# Altium schematic symbol library QUAN-AD-Library.SchLib: 166 symbols (part 2 of 2)
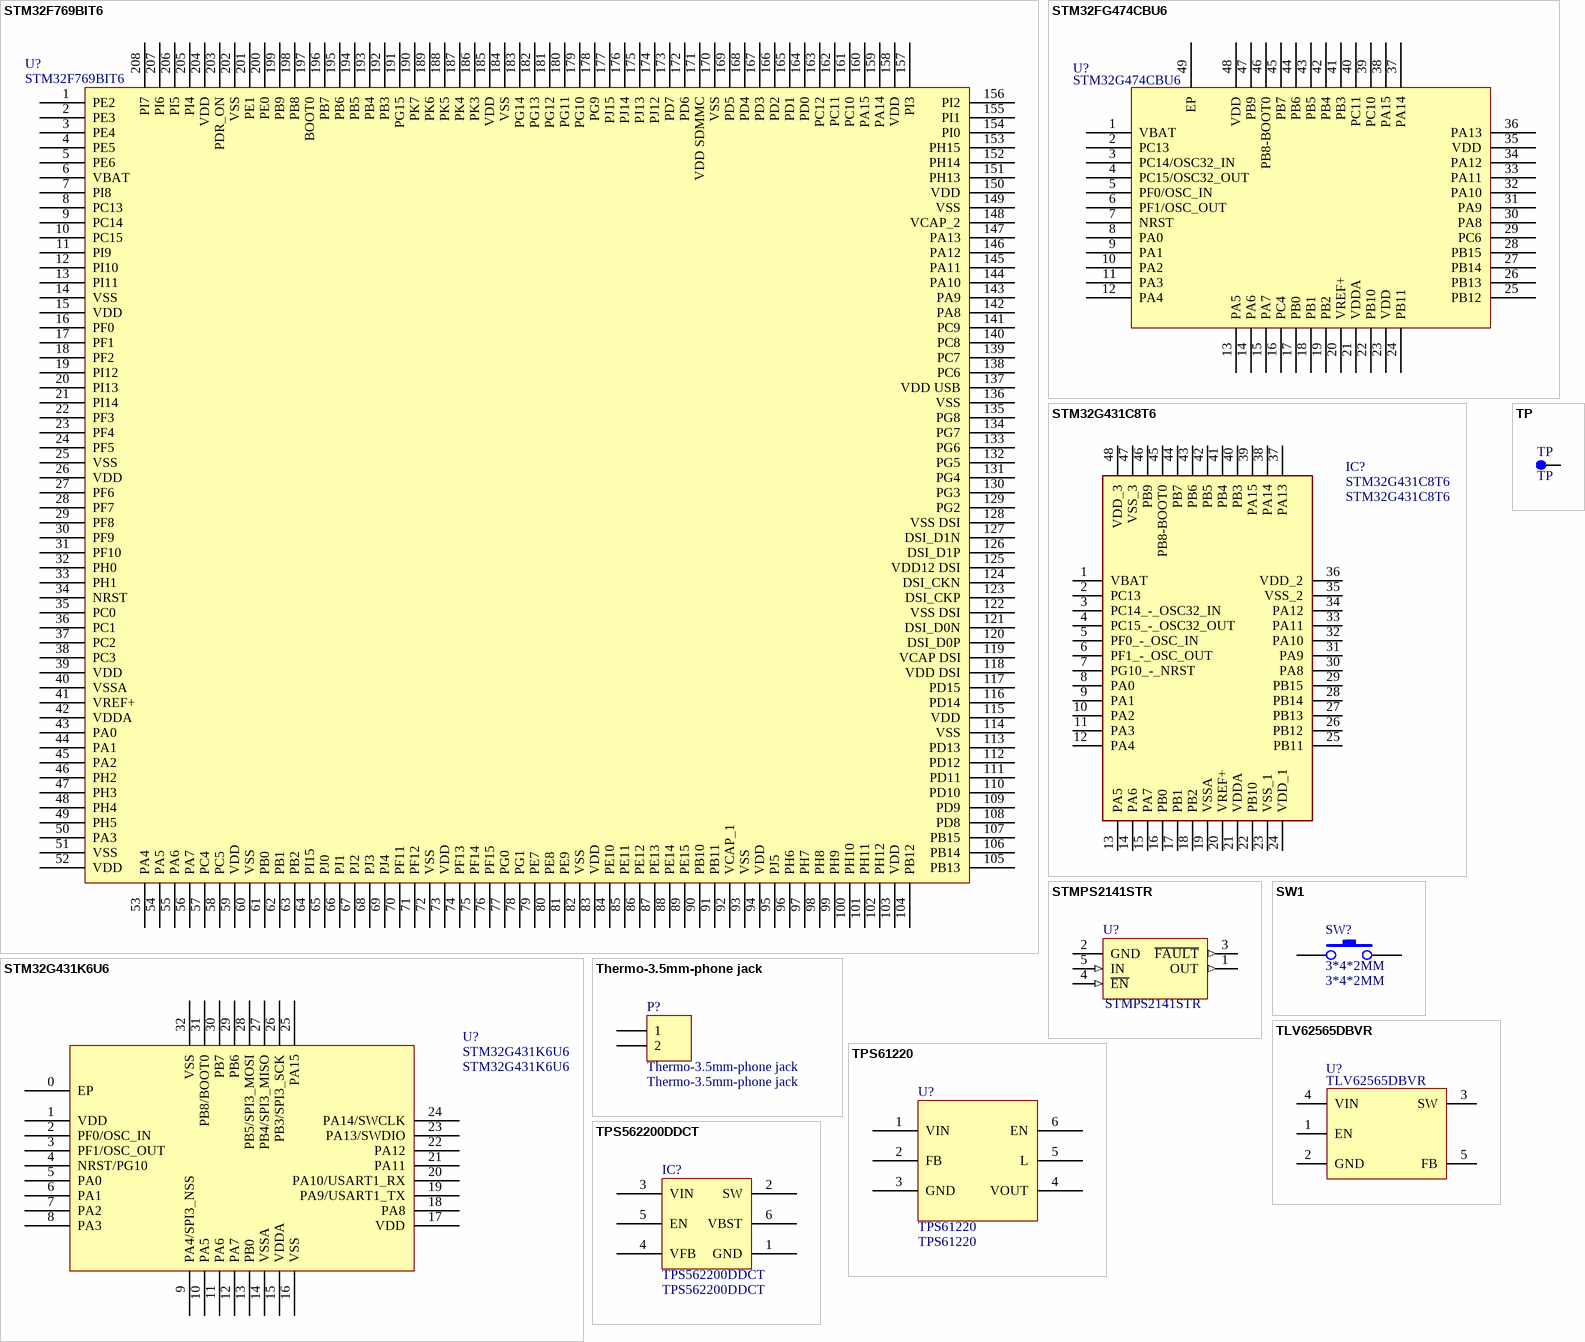
[diagram p8: symbols STM32F769BIT6 to TPS562200DDCT]

## TP
designator TP
Test point; Value: TP
footprint TESTPAD-0.6MM
footprint TESTPAD-0.6MM-1
footprint TESTPAD-0.4MM
footprint TESTPAD-0.4MM-1
footprint MODULE-PAD-0.65X0.4
footprint TESTPAD-1X0.6MM-1
footprint TESTPAD-0.6X0.4MM-1
pins: 1
2 alternate drawings of the same symbol

## TPS61220
designator U?
LDO; Value: TPS61220
footprint SOT-23-6
footprint SOT-23-6-0.65MM-1
pins: 1 VIN, 2 FB, 3 GND, 4 VOUT, 5 L, 6 EN
2 alternate drawings of the same symbol

## TPS562200DDCT
designator IC?
LDO; Value: TPS562200DDCT
footprint SOT-23-6-0.95mm
pins: 1 GND, 2 SW, 3 VIN, 4 VFB, 5 EN, 6 VBST

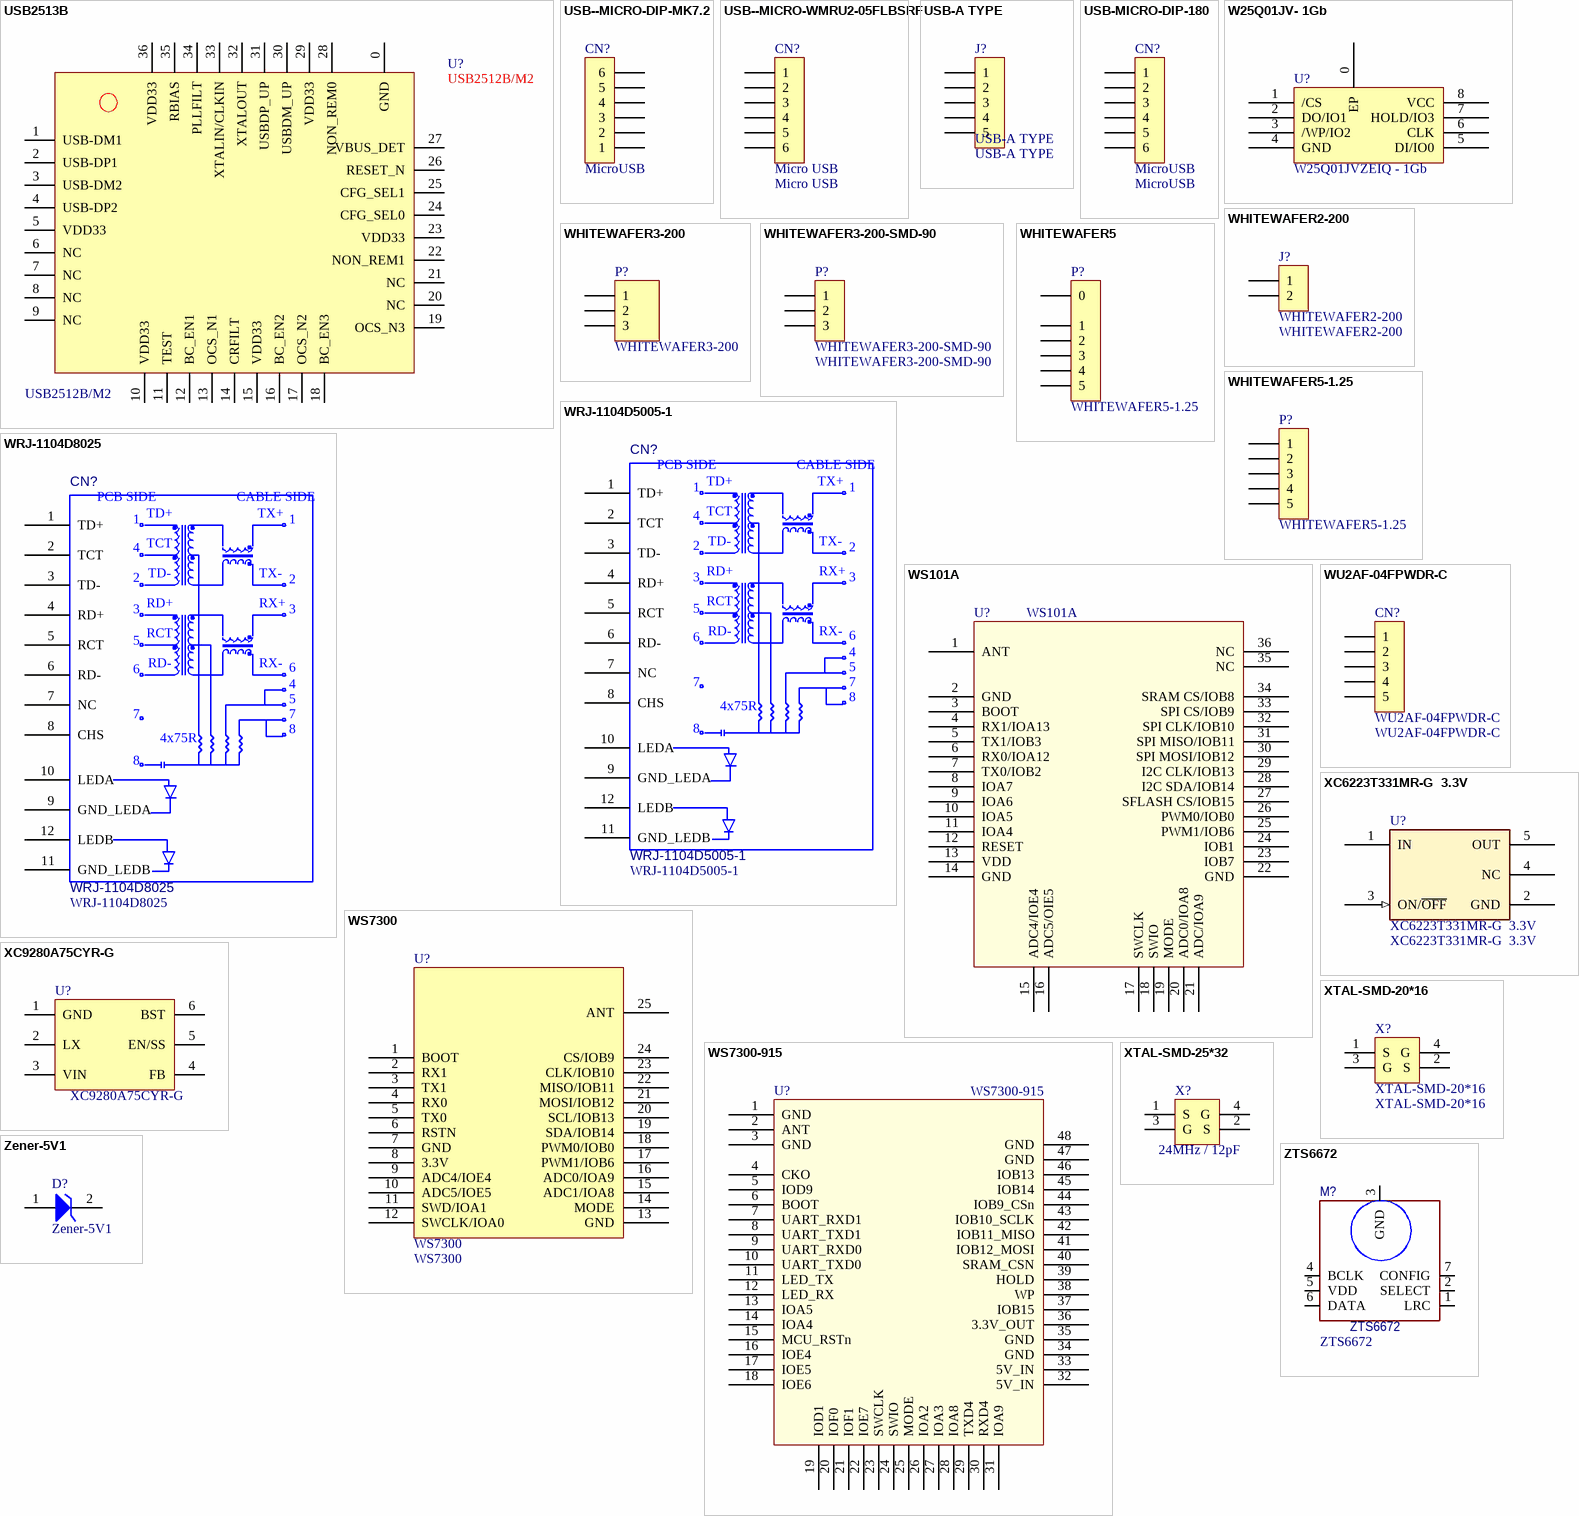
[diagram p7: symbols USB2513B to ZTS6672]

## USB2513B
designator U?, comment USB2512B/M2
USB Hub; Value: USB2512B/M2
footprint QFN-36-0.5MM-6x6
pins: 0 GND, 1 USB-DM1 "GND", 2 USB-DP1 "SCL", 3 USB-DM2 "SDA", 4 USB-DP2 "NC", 5 VDD33 "P1_5", 6 NC "P1_4", 7 NC "P1_3", 8 NC "P1_2", 9 NC "P1_1", 10 VDD33 "DVDD2", 11 TEST, 12 BC_EN1 "P0_7", 13 OCS_N1 "P0_6", 14 CRFILT "P0_5", 15 VDD33 "P0_4", 16 BC_EN2 "P0_3", 17 OCS_N2 "P0_2", 18 BC_EN3 "P0_1", 19 OCS_N3 "AVDD5", 20 NC "XOSC_Q1", 21 NC "AVDD5", 22 NON_REM1 "XOSC_Q1", 23 VDD33 "XOSC_Q2", 24 CFG_SEL0 "AVDD3", 25 CFG_SEL1 "RF_P", 26 RESET_N "RF_N", 27 VBUS_DET "AVDD2", 28 NON_REM0 "AVDD1", 29 VDD33 "AVDD4", 30 USBDM_UP "R_BIAS", 31 USBDP_UP "AVDD6", 32 XTALOUT "P2_4 / OSC32K_Q1", 33 XTALIN/CLKIN "P2_3 / OSC32K_Q2", 34 PLLFILT "P2_2", 35 RBIAS "P2_1", 36 VDD33 "P2_0"

## USB--MICRO-DIP-MK7.2
designator CN?, comment MicroUSB
MicroUSB,USB--MICRO-DIP-MK7.2; Value: MicroUSB
footprint USB--MICRO-DIP-MK7.2
pins: 1, 2, 3, 4, 5, 6
2 alternate drawings of the same symbol

## USB--MICRO-WMRU2-05FLBSRF
designator CN?, comment Micro USB
Connector; Value: Micro USB
footprint USB--MICRO-WMRU2-05FLBSRF
pins: 1, 2, 3, 4, 5, 6
2 alternate drawings of the same symbol

## USB-A TYPE
designator J?
Connector; Value: USB-A TYPE
footprint USB2.0-A TYPE
pins: 1, 2, 3, 4, 5
2 alternate drawings of the same symbol

## USB-MICRO-DIP-180
designator CN?, comment MicroUSB
Connector; Value: MicroUSB
footprint USB-MICRO-DIP-180
pins: 1, 2, 3, 4, 5, 6
2 alternate drawings of the same symbol

## W25Q01JV- 1Gb
designator U?, comment W25Q01JVZEIQ - 1Gb
FLASH; Value: W25Q01JVZEIQ - 1Gb
footprint WSON  8X6mm
pins: 0 EP, 1 /CS, 2 DO/IO1, 3 /WP/IO2, 4 GND, 5 DI/IO0, 6 CLK, 7 HOLD/IO3, 8 VCC
2 alternate drawings of the same symbol

## WHITEWAFER2-200
designator J?
Connector; Value: WHITEWAFER2-200
footprint BUZZER-DIP-12MM-6.5MM
footprint WHITEWAFER2-200L
footprint WHITEWAFER2-200
footprint WHITEWAFER2-25
footprint OQ5.08-90D-2P
footprint BUZZER-SMD-5*5mm
footprint I-PEX-CON
footprint KF142R-5.08-2P
footprint BUZZER-DIP-9.6MM
pins: 1, 2
2 alternate drawings of the same symbol

## WHITEWAFER3-200
designator P?
LatestRevisionDate: 17-Jul-2002; LatestRevisionNote: Re-released for DXP Platform.; Publisher: Altium Limited; Value: WHITEWAFER3-200
footprint WHITEWAFER3-200
pins: 1, 2, 3

## WHITEWAFER3-200-SMD-90
designator P?
Connector; Value: WHITEWAFER3-200-SMD-90
footprint WHITEWAFER3-200-SMD-90
pins: 1, 2, 3
2 alternate drawings of the same symbol

## WHITEWAFER5
designator P?, comment WHITEWAFER5-1.25
Value: WHITEWAFER5-1.25
footprint WHITEWAFER5-1.25-SMD-90
pins: 0, 1, 2, 3, 4, 5

## WHITEWAFER5-1.25
designator P?
Value: WHITEWAFER5-1.25
footprint WHITEWAFER5-125L
pins: 1, 2, 3, 4, 5

## WRJ-1104D5005-1
designator CN?
Connector; Right: 162; Bottom: 258; Value: WRJ-1104D5005-1
footprint WRJ45-Sheiding
pins: 1 TD+, 2 TCT, 3 TD-, 4 RD+, 5 RCT, 6 RD-, 7 NC, 8 CHS, 9 GND_LEDA, 10 LEDA, 11 GND_LEDB, 12 LEDB
2 alternate drawings of the same symbol
text: PCB SIDE; CABLE SIDE; TX+; TX-; RX+; RX-; 4x75R

## WRJ-1104D8025
designator CN?
Connector; Right: 162; Bottom: 258; Value: WRJ-1104D8025
footprint WRJ45-Sheiding-ROUT
pins: 1 TD+, 2 TCT, 3 TD-, 4 RD+, 5 RCT, 6 RD-, 7 NC, 8 CHS, 9 GND_LEDA, 10 LEDA, 11 GND_LEDB, 12 LEDB
2 alternate drawings of the same symbol
text: PCB SIDE; CABLE SIDE; TX+; TX-; RX+; RX-; 4x75R

## WS101A
designator U?
Module; Value: WS101A
footprint WS101A (Vertexcom)
pins: 1 ANT, 2 GND, 3 BOOT, 4 RX1/IOA13, 5 TX1/IOB3, 6 RX0/IOA12, 7 TX0/IOB2, 8 IOA7, 9 IOA6, 10 IOA5, 11 IOA4, 12 RESET, 13 VDD, 14 GND, 15 ADC4/IOE4, 16 ADC5/OIE5, 17 SWCLK, 18 SWIO, 19 MODE, 20 ADC0/IOA8, 21 ADC/IOA9, 22 GND, 23 IOB7, 24 IOB1, 25 PWM1/IOB6, 26 PWM0/IOB0, 27 SFLASH CS/IOB15, 28 I2C SDA/IOB14, 29 I2C CLK/IOB13, 30 SPI MOSI/IOB12, 31 SPI MISO/IOB11, 32 SPI CLK/IOB10, 33 SPI CS/IOB9, 34 SRAM CS/IOB8, 35 NC, 36 NC

## WS7300
designator U?
Wisun Module; Value: WS7300
footprint WS7300-Wisun
pins: 1 BOOT, 2 RX1, 3 TX1, 4 RX0, 5 TX0, 6 RSTN, 7 GND, 8 3.3V, 9 ADC4/IOE4, 10 ADC5/IOE5, 11 SWD/IOA1, 12 SWCLK/IOA0, 13 GND, 14 MODE, 15 ADC1/IOA8, 16 ADC0/IOA9, 17 PWM1/IOB6, 18 PWM0/IOB0, 19 SDA/IOB14, 20 SCL/IOB13, 21 MOSI/IOB12, 22 MISO/IOB11, 23 CLK/IOB10, 24 CS/IOB9, 25 ANT
2 alternate drawings of the same symbol

## WS7300-915
designator U?
Module; Value: WS7300-915
footprint WS7300-915 (Footprint not found)
footprint Model Name (Footprint not found)
footprint WiSun-Lierda
pins: 1 GND, 2 ANT, 3 GND, 4 CKO, 5 IOD9, 6 BOOT, 7 UART_RXD1, 8 UART_TXD1, 9 UART_RXD0, 10 UART_TXD0, 11 LED_TX, 12 LED_RX, 13 IOA5, 14 IOA4, 15 MCU_RSTn, 16 IOE4, 17 IOE5, 18 IOE6, 19 IOD1, 20 IOF0, 21 IOF1, 22 IOE7, 23 SWCLK, 24 SWIO, 25 MODE, 26 IOA2, 27 IOA3, 28 IOA8, 29 TXD4, 30 RXD4, 31 IOA9, 32 5V_IN, 33 5V_IN, 34 GND, 35 GND, 36 3.3V_OUT, 37 IOB15, 38 WP, 39 HOLD, 40 SRAM_CSN, 41 IOB12_MOSI, 42 IOB11_MISO, 43 IOB10_SCLK, 44 IOB9_CSn, 45 IOB14, 46 IOB13, 47 GND, 48 GND

## WU2AF-04FPWDR-C
designator CN?
Connector; Value: WU2AF-04FPWDR-C
footprint USB-A TYPE-CON2
pins: 1, 2, 3, 4, 5
2 alternate drawings of the same symbol

## XC6223T331MR-G  3.3V
designator U?
LDO,LDO Voltage Regulators MicroPwr 100mA Ultra LDO Reg,XC6223T331MR-G  3.3V; Part Number: 34000298109; Right: 80; Bottom: 60; PCB_loc: Top; PCB_dir: 270.000000; PCB_y: 12.938000; PCB_x: 16.192500; VALUE_ALLEGRO: GS2813L33F  3.3V; Package Height: 1.22mm; Rating: -40 to +125蚓; FPLIST: mot/sot23-5,dig/sot23-5; Value: XC6223T331MR-G  3.3V
footprint sot23-5
footprint SOT-23-5-0.95MM
pins: 1 IN, 2 GND, 3 ON/~{OFF} (in), 4 NC, 5 OUT
2 alternate drawings of the same symbol

## XC9280A75CYR-G
designator U?
BuckDC/DC Converters; Value: XC9280A75CYR-G
footprint SOT-23-6-0.95mm
pins: 1 GND, 2 LX, 3 VIN, 4 FB, 5 EN/SS, 6 BST

## XTAL-SMD-20*16
designator X?
Cystal; Value: XTAL-SMD-20*16
footprint XTAL-SMD-20X16
pins: 1 S, 2 S, 3 G, 4 G

## XTAL-SMD-25*32
designator X?, comment 24MHz / 12pF
Cystal; Value: 24MHz / 12pF
footprint XTAL-SMD-25*32
pins: 1 S, 2 S, 3 G, 4 G
2 alternate drawings of the same symbol

## Zener-5V1
designator D?
Zener Diode; Value: Zener-5V1
footprint LL34-Zener
pins: 1, 2

## ZTS6672
designator M?
MIC; Value: ZTS6672
footprint ZTS6672-Mic
pins: 1 LRC, 2 SELECT, 3 GND, 4 BCLK, 5 VDD, 6 DATA, 7 CONFIG